# EAGLE library part BAXY (library parts)
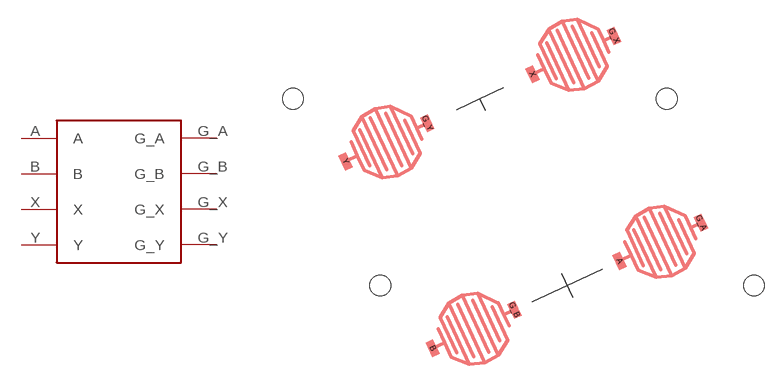
[diagram p1: symbol with the pads of ABXY; footprint ABXY]

Designator prefix -

## BAXY  [ABXY]
A  A
B  B
G_A  G_A
G_B  G_B
G_X  G_X
G_Y  G_Y
X  X
Y  Y

## Footprint ABXY (pad centres in mm)
smd 1.27 x 0.635 rotated 115: A 7.454,-5.352; B -7.047,-12.114; G_A 13.79,-2.376; G_B -0.711,-9.138; G_X 7.028,12.125; X 0.692,9.149; Y -13.809,2.387
smd 1.27 x 0.635 rotated 295: G_Y -7.465,5.345
hole 1.6 at 17.881,-7.25
hole 1.6 at -11.119,-7.25
hole 1.6 at -17.881,7.25
hole 1.6 at 11.119,7.25